# Altium integrated library mantarray_beta2_sensor.IntLib: 5 symbols
Pins are listed as number, name and electrical type; pins without a type are passive.

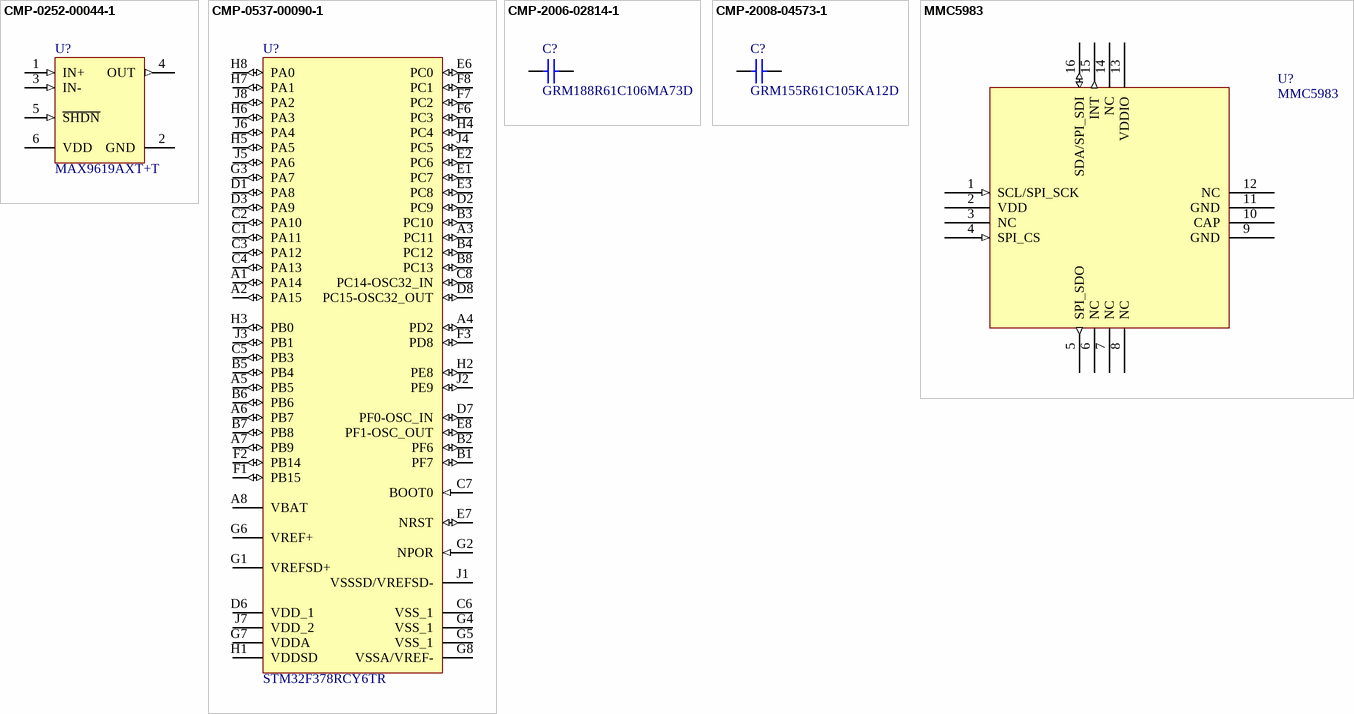
[diagram p0: symbols CMP-0252-00044-1 to MMC5983]

## CMP-0252-00044-1
designator U?, comment MAX9619AXT+T
1.5MHz, High-Efficiency Single Op Amp with Zero-Drift and Rail to Rail IO, 6-Pin SC70, -40°C to +125°C, Pb-Free, Tape and Reel; Manufacturer: Maxim; ComponentLink2Description: Datasheet; ComponentLink3URL: http://pdfserv.maxim-ic.com/package_dwgs/21-0077.PDF; Code_JEDEC: MO-203; ComponentLink1URL: http://www.maxim-ic.com; ComponentLink3Description: Package Specification; ComponentLink2URL: http://datasheets.maxim-ic.com/en/ds/MAX9617-MAX9620.pdf; PackageVersion: revH, 2010; ComponentLink1Description: Manufacturer URL; PackageReference: X6SN+1; PackageDescription: 6-Pin SL70 Package 2 x 1.3 mm Body ,0.65 mm Pitch, Pb-Free; DatasheetVersion: Rev 5, Jul-2011; Manufacturer Part Number: MAX9619AXT+T
footprint X6SN+1_M (SOT23, 6-Leads, Body 2x1.3mm, Pitch 0.65mm, Lead Span 2.2mm, IPC Low Density)
footprint X6SN+1_N (SOT23, 6-Leads, Body 2x1.3mm, Pitch 0.65mm, Lead Span 2.2mm, IPC Medium Density)
footprint X6SN+1_L (SOT23, 6-Leads, Body 2x1.3mm, Pitch 0.65mm, Lead Span 2.2mm, IPC High Density)
pins: 1 IN+ (in), 2 GND (power), 3 IN- (in), 4 OUT (out), 5 ~{SHDN} (in), 6 VDD (power)

## CMP-0537-00090-1
designator U?, comment STM32F378RCY6TR
ARM Cortex-M4 32-bit MCU, 256 KB Flash, 32 KB Internal RAM, 52 I/Os, 66-Pin WLCSP, -40 to 85 degC, Tape and Reel; Manufacturer: STMicroelectronics; Internal RAM Size (kB): 32; Operating Frequency(F) (Processor speed) (MHz): 72; Supply Voltage(Vcc) min (V): 1.65; I/Os (High Current): 52; FLASH Size (Prog) (kB): 256; D/A Converter: 3; Package Reference: WLCSP66; Packing: Tape and Reel; Core: ARM Cortex-M4; ComponentLink1URL: http://www.st.com/; ComponentLink2URL: http://www.st.com/st-web-ui/static/active/en/resource/technical/document/datasheet/DM00101621.pdf; ComponentLink1Description: Manufacturer URL; Mounting Technology: Surface Mount; DatasheetVersion: Rev. 4; Package Description: 66-Ball Wafer Level Chip Size package, 3.767 x 4.229 mm Body, 0.4 mm Pitch; ComponentLink2Description: Datasheet; Manufacturer Part Number: STM32F378RCY6TR
footprint STM-WLCSP66 (BGA, 66-Balls, Body 4.23x3.77mm, Pitch 0.4mm)
pins: A1 PA14 (io) "PA14/I2C1_SDA,TIM12_CH1,TSC_G4_IO4,SWCLK-JTCK", A2 PA15 (io) "PA15/SPI1_NSS/I2S1_WS,SPI3_NSS/I2S3_WS,I2C1_SCL,TIM2_CH1_ETR,TIM12_CH2,TSC_SYNC,JTDI", A3 PC11 (io) "PC11/SPI3_MISO/I2S3_MCK,USART3_RX,TIM19_CH2", A4 PD2 (io) "PD2/TIM3_ETR", A5 PB5 (io) "PB5/SPI1_MOSI/I2S1_SD,SPI3_MOSI/I2S3_SD,I2C1_SMBA,USART2_CK,TIM16_BKIN,TIM3_CH2,TIM17_CH1,TIM19_ETR", A6 PB7 (io) "PB7/I2C1_SDA,USART1_RX,TIM17_CH1N,TIM3_CH4,TIM4_CH2,TIM19_CH2,TIM15_CH2,TSC_G5_IO4", A7 PB9 (io) "PB9/SPI2_NSS/I2S2_WS,I2C1_SDA,USART3_RX,CAN_TX,IR_OUT,TIM17_CH1,TIM4_CH4,TIM19_CH4,COMP2_OUT", A8 VBAT (power) "Backup power supply", B1 PF7 (io) "PF7/I2C2_SDA,USART2_CK", B2 PF6 (io) "PF6/SPI1_MOSI,I2S1_SD,USART3_RTS,TIM4_CH4,I2C2_SCL", B3 PC10 (io) "PC10/SPI3_SCK/I2S3_CK,USART3_TX,TIM19_CH1", B4 PC12 (io) "PC12/SPI3_MOSI/I2S3_SD,USART3_CK,TIM19_CH3", B5 PB4 (io) "PB4/SPI1_MISO/I2S1_MCK,SPI3_MISO/I2S3_MCK,USART2_RX,TIM162_CH1,TIM3_CH1,TIM17_BKIN,TIM15_CH1N,TSC_G5_IO2,NJTRST", B6 PB6 (io) "PB6/I2C1_SCL,USART1_TX,TIM16_CH1N,TIM3_CH3,TIM4_CH1,TIM19_CH1,TIM15_CH1,TSC_G5_IO3", B7 PB8 (io) "PB8/SPI2_SCK/I2S2_CK,I2C1_SCL,USART3_TX,CAN_RX,CEC,TIM16_CH1,TIM4_CH3,TIM19_CH3,COMP1_OUT,TSC_SYNC", B8 PC13 (io) "PC13/WKUP2,ALARM_OUT,CALIB_OUT,TIMESTAMP,RTC_TAMPER1", C1 PA11 (io) "PA11/SPI2_NSS/I2S2_WS,SPI1_NSS/I2S1_WS,USART1_CTS,CAN_RX,TIM4_CH1,TIM5_CH2,COMP1_OUT", C2 PA10 (io) "PA10/SPI2_MOSI/I2S2_SD,I2C2_SDA,USART1_RX,TIM2_CH4,TIM17_BKIN,TIM14_CH1,TSC_G4_IO2", C3 PA12 (io) "PA12/SPI1_SCK/I2S1_CK,USART1_RTS,CAN_TX,TIM16_CH1,TIM4_CH2,TIM5_CH3,COMP2_OUT", C4 PA13 (io) "PA13/SPI1_MISO/I2S1_MCK,USART3_CTS,IR_OUT,TIM16_CH1N,TIM4_CH3,TIM5_CH4,G4_IO3,SWDIO-JTMS", C5 PB3 (io) "PB3/SPI1_SCK/I2S1_CK,SPI3_SCK/I2S3_CK,USART2_TX,TIM2_CH2,TIM3_ETR,TIM4_ETR,TIM13_CH1,TSC_G5_IO1,JTDO-TRACESWO", C6 VSS_1 (power) "Ground", C7 BOOT0 (in) "Boot memory selection", C8 PC14-OSC32_IN (io) "PC14-OSC32_IN/OSC32_IN", D1 PA8 (io) "PA8/SPI2_SCK/I2S2_CK,I2C2_SMBA,USART1_CK,TIM4_ETR,TIM5_CH1_ETR,CLK_CLKOUT", D2 PC9 (io) "PC9/SPI1_MOSI/I2S1_SD,TIM3_CH4", D3 PA9 (io) "PA9/SPI2_MISO/I2S2_MCK,I2C2_SCL,USART1_TX,TIM2_CH3,TIM15_BKIN,TIM13_CH1,TSC_G4_IO1", D6 VDD_1 (power) "Digital power supply", D7 PF0-OSC_IN (io) "PF0-OSC_IN/I2C2_SDA/OSC_IN", D8 PC15-OSC32_OUT (io) "PC15-OSC32_OUT/OSC32_OUT", E1 PC7 (io) "PC7/SPI1_SCK/I2S1_CK,TIM3_CH2", E2 PC6 (io) "PC6/SPI1_NSS/I2S1_WS,TIM3_CH1", E3 PC8 (io) "PC8/SPI1_MISO/I2S1_MCK,TIM3_CH3", E6 PC0 (io) "PC0/TIM5_CH1_ETR/ADC_IN10", E7 NRST (io) "Device reset input/internal reset output (active low)", E8 PF1-OSC_OUT (io) "PF1-OSC_OUT/I2C2_SCL/OSC_OUT", F1 PB15 (io) "PB15/SPI2_MOSI/I2S2_SD,TIM15_CH1N,TIM15_CH2,TIM12_CH2,TSC_G6_IO2,RTC_REFIN/SDADC3_AIN7P,SDADC3_AIN8M", F2 PB14 (io) "PB14/SPI2_MISO/I2S2_MCK,USART3_RTS,TIM15_CH1,TIM12_CH1,TSC_G6_IO1/SDADC3_AIN8P", F3 PD8 (io) "PD8/SPI2_SCK/I2S2_CK,USART3_TX,TSC_G6_IO3/SDADC3_AIN6P", F6 PC3 (io) "PC3/SPI2_MOSI/I2S2_SD,TIM5_CH4/ADC_IN13", F7 PC2 (io) "PC2/SPI2_MISO/I2S2_MCK,TIM5_CH3/ADC_IN12", F8 PC1 (io) "PC1/TIM5_CH2/ADC_IN11", G1 VREFSD+ (power) "External reference voltage for SDADC1, SDADC2, SDADC3 (positive input)", G2 NPOR (in) "Power-on reset", G3 PA7 (io) "PA7/SPI1_MOSI/I2S1_SD,TIM14_CH1,TIM17_CH1,TIM3_CH2,COMP2_OUT,TSC_G2_IO4/ADC_IN7", G4 VSS_1 (power) "Ground", G5 VSS_1 (power) "Ground", G6 VREF+ (power) "Reference voltage for ADC,COMP,DAC", G7 VDDA (power) "Analog power supply", G8 VSSA/VREF- (power) "Analog ground", H1 VDDSD (power) "SDADC1, SDADC2, SDADC3 power supply", H2 PE8 (io) "PE8/SDADC1_AIN8P,SDADC2_AIN8P", H3 PB0 (io) "PB0/SPI1_MOSI/I2S1_SD,TIM3_CH3,TSC_G3_IO3/ADC_IN8,SDADC1_AIN6P", H4 PC4 (io) "PC4/USART1_TX,TIM13_CH1,TSC_G3_IO1/ADC_IN14", H5 PA5 (io) "PA5/SPI1_SCK/I2S1_CK,CEC,TIM2_CH1_ETR,TIM14_CH1,TIM12_CH2,TSC_G2_IO2/ADC_IN5,DAC1_OUT2", H6 PA3 (io) "PA3/SPI3_MOSI,I2S3_SD,USART2_RX,TIM2_CH4,TIM15_CH2,TIM5_CH4,TIM19_CH4,TSC_G1_IO4/ADC_IN3,COMP2_INP", H7 PA1 (io) "PA1/SPI3_SCK/I2S3_CK,USART2_RTS,TIM2_CH2,TIM15_CH1N,TIM5_CH2,TIM19_CH2,TSC_G1_IO2,RTC_REF_IN/ADC_IN1,COMP1_INP", H8 PA0 (io) "PA0/USART2_CTS,TIM2_CH1_ETR,TIM5_CH1_ETR,TIM19_CH1,TSC_G1_IO1,COMP1_OUT/RTC_TAMPER2,WKUP1,ADC_IN0,COMP1_INM", J1 VSSSD/VREFSD- (power) "SDADC1, SDADC2, SDADC3 ground / External reference voltage for SDADC1, SDADC2, SDADC3 negative input), negative SDADC analog input in SDADC single ended mode", J2 PE9 (io) "PE9/SDADC1_AIN7P,SDADC1_AIN8M,SDADC2_AIN7P,SDADC2_AIN8M", J3 PB1 (io) "PB1/TIM3_CH4,TSC_G3_IO4/ADC_IN9,SDADC1_AIN5P,SDADC1_AIN6M", J4 PC5 (io) "PC5/USART1_RX,TSC_G3_IO2/ADC_IN15", J5 PA6 (io) "PA6/SPI1_MISO/I2S1_MCK,TIM3_CH1,TIM13_CH1,TIM16_CH1,COMP1_OUT,TSC_G2_IO3/ADC_IN6,DAC2_OUT1", J6 PA4 (io) "PA4/SPI1_NSS/I2S1_WS,SPI3_NSS/I2S3_WS,USART2_CK,TIM3_CH2,TIM12_CH1,TSC_G2_IO1/ADC_IN4,DAC1_OUT1", J7 VDD_2 (power) "Digital power supply", J8 PA2 (io) "PA2/COMP2_OUT,TSC_G1_IO3,SPI3_MISO/I2S3_MCK,USART2_TX,TIM2_CH3,TIM15_CH1,TIM5_CH3,TIM19_CH3/ADC_IN2,COMP2_INM"

## CMP-2006-02814-1
designator C?, comment GRM188R61C106MA73D
Manufacturer: Murata; Part Number: GRM188R61C106MA73D; Manufacturer Part Number: GRM188R61C106MA73D
footprint CAPC1608X90X35NL10T15 (Chip Capacitor, 2-Leads, Body 1.60x0.80mm, IPC Medium Density)
footprint CAPC1608X90X35ML10T15 (Chip Capacitor, 2-Leads, Body 1.60x0.80mm, IPC Low Density)
footprint CAPC1608X90X35LL10T15 (Chip Capacitor, 2-Leads, Body 1.60x0.80mm, IPC High Density)
pins: 1, 2
1 alternate drawing of the same symbol

## CMP-2008-04573-1
designator C?, comment GRM155R61C105KA12D
Manufacturer: Murata; Part Number: GRM155R61C105KA12D; Manufacturer Part Number: GRM155R61C105KA12D
footprint CAPC1005X55X25ML05T10 (Chip Capacitor, 2-Leads, Body 1.00x0.50mm, IPC Low Density)
footprint CAPC1005X55X25LL05T10 (Chip Capacitor, 2-Leads, Body 1.00x0.50mm, IPC High Density)
footprint CAPC1005X55X25NL05T10 (Chip Capacitor, 2-Leads, Body 1.00x0.50mm, IPC Medium Density)
pins: 1, 2
1 alternate drawing of the same symbol

## MMC5983
designator U?
+/- 8Gauss, High Performance 3-axis Magnetic Sensor
footprint LGA_16 (LGA package for MEMSIC MMC5983)
pins: 1 SCL/SPI_SCK (in), 2 VDD (power), 3 NC, 4 SPI_CS (in), 5 SPI_SDO (out), 6 NC, 7 NC, 8 NC, 9 GND (power), 10 CAP (power), 11 GND (power), 12 NC, 13 VDDIO (power), 14 NC, 15 INT (out), 16 SDA/SPI_SDI (io)